# Altium schematic symbol library SCH - INTERFACE - FTDI FT232H.SchLib: 1 symbol
Pins are listed as number, name and electrical type; pins without a type are passive.

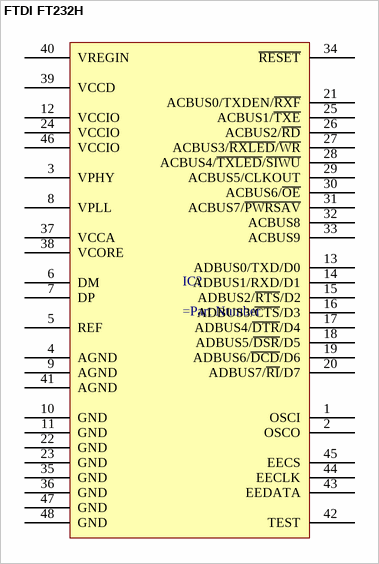
[diagram p0: symbol FTDI FT232H]

## FTDI FT232H
designator IC?
pins: 1 OSCI, 2 OSCO, 3 VPHY, 4 AGND, 5 REF, 6 DM, 7 DP, 8 VPLL, 9 AGND, 10 GND, 11 GND, 12 VCCIO, 13 ADBUS0/TXD/D0, 14 ADBUS1/RXD/D1, 15 ADBUS2/~{RTS}/D2, 16 ADBUS3/~{CTS}/D3, 17 ADBUS4/~{DTR}/D4, 18 ADBUS5/~{DSR}/D5, 19 ADBUS6/~{DCD}/D6, 20 ADBUS7/~{RI}/D7, 21 ACBUS0/TXDEN/~{RXF}, 22 GND, 23 GND, 24 VCCIO, 25 ACBUS1/~{TXE}, 26 ACBUS2/~{RD}, 27 ACBUS3/~{RXLED}/~{WR}, 28 ACBUS4/~{TXLED}/~{SIWU}, 29 ACBUS5/CLKOUT, 30 ACBUS6/~{OE}, 31 ACBUS7/~{PWRSAV}, 32 ACBUS8, 33 ACBUS9, 34 ~{RESET}, 35 GND, 36 GND, 37 VCCA, 38 VCORE, 39 VCCD, 40 VREGIN, 41 AGND, 42 TEST, 43 EEDATA, 44 EECLK, 45 EECS, 46 VCCIO, 47 GND, 48 GND